# Altium footprint library PCB1.PcbLib: 38 footprints (part 1 of 3)
Each footprint in its own frame and in the unit in brackets; x right, y up, seen from the top. Pads: shape width x height; smd on the part's side, far side on the other; paste and mask are expansions set on the pad; w line width, h text height; cw(c..) or ccw(c..) is an arc to the next point about the centre after c.
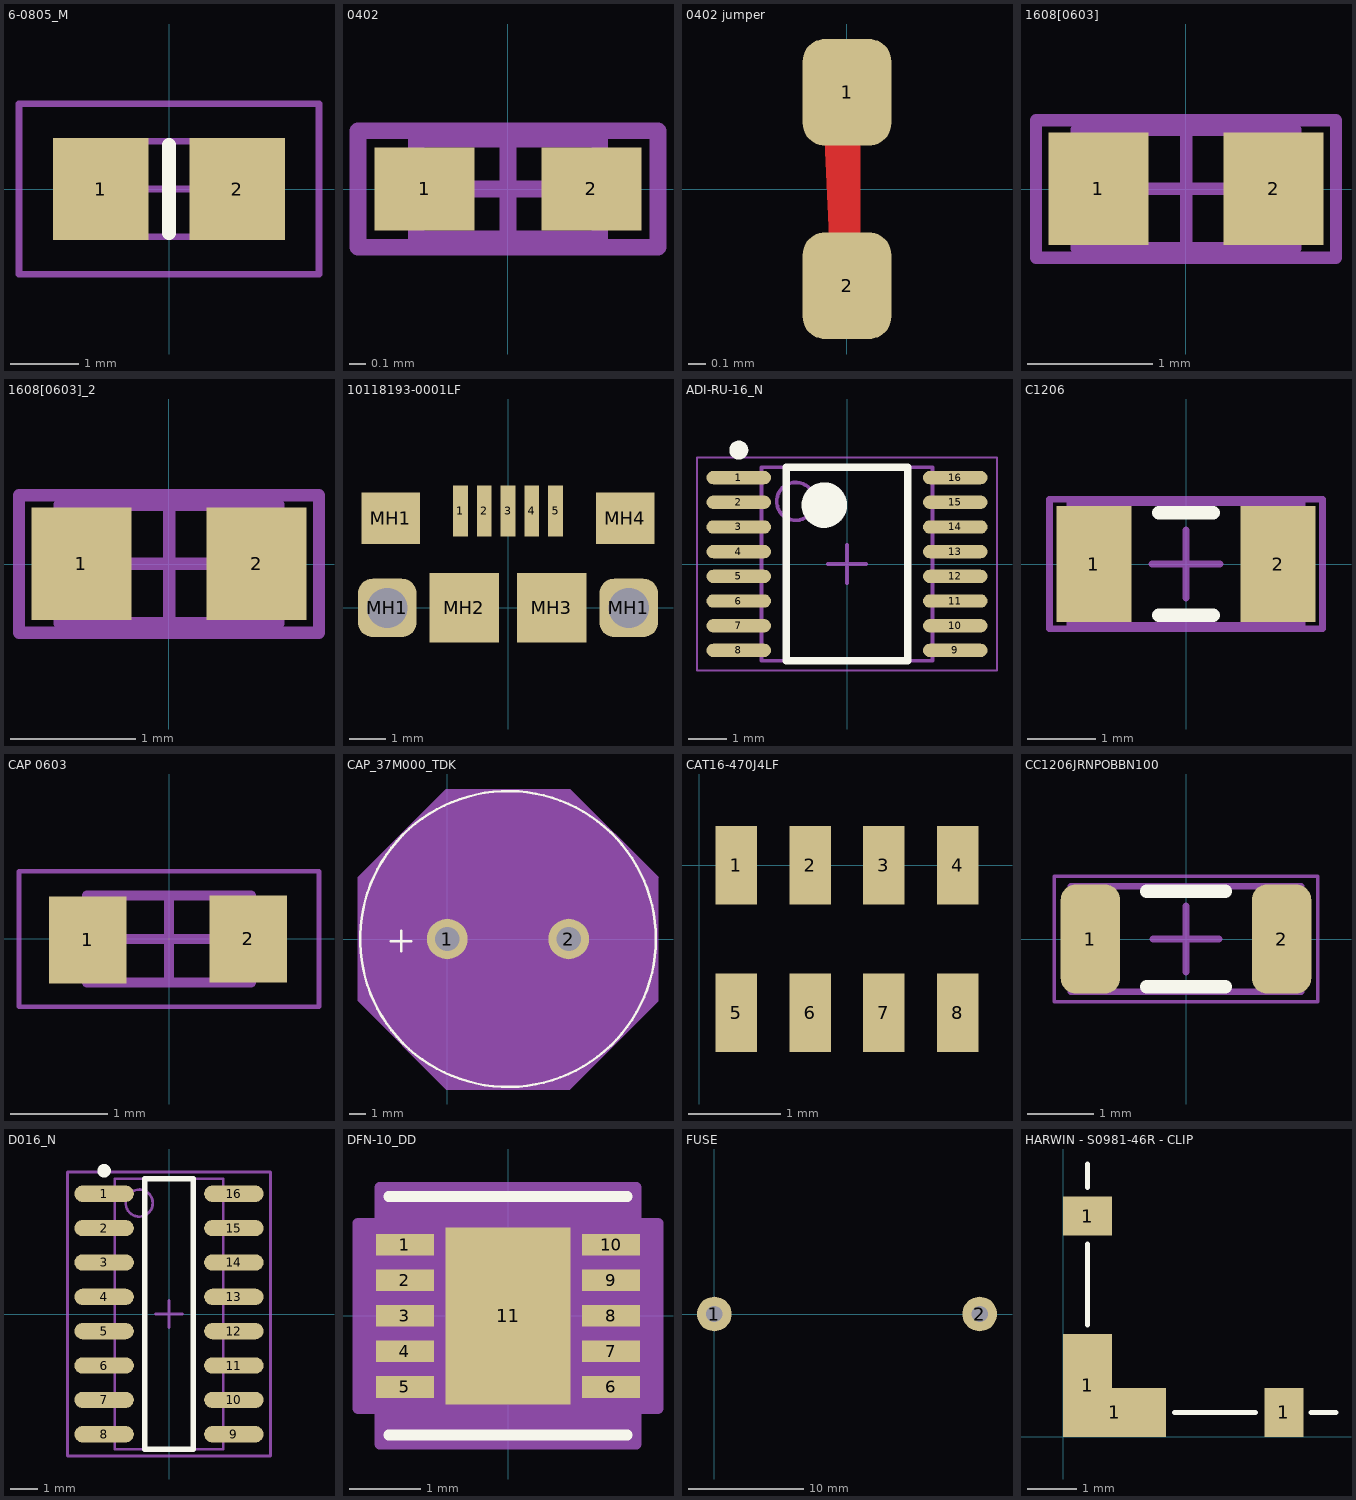
[diagram p0: the footprints below, top view; thin cyan lines are the x and y axes]

## 6-0805_M [mm]
pads (2):
  rect 1.4x1.5 smd: 1(-1,0) 2(1,0)
Top Overlay:
  lines w0.2: 0,-0.65 0,0.65
Mechanical 13:
  lines w0.1: -1.075,-0.7 -1.075,0.7 1.075,0.7 1.075,-0.7 -1.075,-0.7
Mechanical 15:
  lines w0.1: -0.5,0 0.5,0 ; 0,-0.5 0,0.5 ; -2.2,-1.25 -2.2,1.25 2.2,1.25 2.2,-1.25 -2.2,-1.25
3D body: height 0.7, standoff 0, extent -1.075,-0.7 1.075,0.7

## 0402 [mm]
pads (2):
  rect 0.6x0.5 smd: 1(-0.5,0) 2(0.5,0)
Mechanical 13:
  lines w0.1: -0.55,-0.3 0.55,-0.3 0.55,0.3 -0.55,0.3 -0.55,-0.3
Mechanical 15:
  lines w0.1: -0.3,0 0.3,0 ; 0,-0.3 0,0.3 ; -0.9,-0.35 0.9,-0.35 0.9,0.35 -0.9,0.35 -0.9,-0.35
3D body: height 1.3, standoff 0, extent -0.55,-0.3 0.55,0.3

## 0402 jumper [mm]
pads (2):
  rrect50% 0.5x0.6 smd: 1(0,0.545) 2(0,-0.545)
Top Layer:
  region: -0.125,0.275 0.075,0.275 0.075,-0.275 -0.1,-0.275
Top Solder:
  lines w0.5: 0,-0.575 0,0.575 ; 0,0.575 -0.025,0.575 0,0.575

## 1608[0603] [mm]
pads (2):
  rect 0.8x0.9 smd: 1(-0.7,0) 2(0.7,0)
Mechanical 13:
  lines w0.1: -0.875,-0.475 0.875,-0.475 0.875,0.475 -0.875,0.475 -0.875,-0.475
Mechanical 15:
  lines w0.1: -0.475,0 0.475,0 ; 0,-0.475 0,0.475 ; -1.2,-0.55 1.2,-0.55 1.2,0.55 -1.2,0.55 -1.2,-0.55
3D body: height 1.3, standoff 0, extent -0.875,-0.475 0.875,0.475

## 1608[0603]_2 [mm]
pads (2):
  rect 0.8x0.9 smd: 1(-0.7,0) 2(0.7,0)
Mechanical 13:
  lines w0.1: -0.875,-0.475 0.875,-0.475 0.875,0.475 -0.875,0.475 -0.875,-0.475
Mechanical 15:
  lines w0.1: -0.475,0 0.475,0 ; 0,-0.475 0,0.475 ; -1.2,-0.55 1.2,-0.55 1.2,0.55 -1.2,0.55 -1.2,-0.55
3D body: height 1.3, standoff 0, extent -0.875,-0.475 0.875,0.475

## 10118193-0001LF [mm]
pads (11):
  rect 0.4x1.4 smd: 1(-1.3,2.65) 2(-0.65,2.65) 3(0,2.65) 4(0.65,2.65) 5(1.3,2.65)
  rrect50% 1.6x1.6 hole 1.1: MH1(-3.3,0) MH1(3.3,0)
  rect 1.6x1.4 smd: MH1(-3.2,2.45) MH4(3.2,2.45)
  rect 1.9x1.9 smd: MH2(-1.2,0) MH3(1.2,0)
3D body "10118193-0001lfc.stp": height 2.88, standoff -0.72, extent -3.928,-2.74 3.928,2.92

## ADI-RU-16_N [mm]
pads (16):
  oval 1.7x0.35 smd: 1(-2.85,2.275) 2(-2.85,1.625) 3(-2.85,0.975) 4(-2.85,0.325) 5(-2.85,-0.325) 6(-2.85,-0.975) 7(-2.85,-1.625) 8(-2.85,-2.275) 9(2.85,-2.275) 10(2.85,-1.625) 11(2.85,-0.975) 12(2.85,-0.325) 13(2.85,0.325) 14(2.85,0.975) 15(2.85,1.625) 16(2.85,2.275)
Top Overlay:
  circle w0.6: c-0.6,1.55 r0.3
  circle w0.25: c-2.85,3 r0.125
  lines w0.2: -1.6,-2.55 1.6,-2.55 1.6,2.55 -1.6,2.55 -1.6,-2.55
Mechanical 13:
  circle w0.1: c-1.35,1.65 r0.5
  lines w0.1: -2.25,-2.55 2.25,-2.55 2.25,2.55 -2.25,2.55 -2.25,-2.55
Mechanical 15:
  lines w0.05: -3.95,-2.8 3.95,-2.8 3.95,2.8 -3.95,2.8 -3.95,-2.8
  lines w0.1: -0.5,0 0.5,0 ; 0,-0.5 0,0.5
3D body: height 1.2, standoff 0.05, extent -2.25,-2.55 2.25,2.55

## C1206 [mm]
pads (2):
  rect 1.1x1.7 smd: 1(-1.35,0) 2(1.35,0)
Top Overlay:
  lines w0.2: -0.4,-0.75 0.4,-0.75 ; -0.4,0.75 0.4,0.75
Mechanical 13:
  lines w0.1: -1.7,-0.9 -1.7,0.9 1.7,0.9 1.7,-0.9 -1.7,-0.9
Mechanical 15:
  lines w0.1: -0.5,0 0.5,0 ; 0,-0.5 0,0.5 ; -2,-0.95 -2,0.95 2,0.95 2,-0.95 -2,-0.95
3D body: height 1.3, standoff 0, extent -1.7,-0.9 1.7,0.9

## CAP 0603 [mm]
pads (2):
  rect 0.8x0.9 smd: 1(-0.84,-0.01) 2(0.82,0)
Mechanical 13:
  lines w0.1: -0.85,-0.45 0.85,-0.45 0.85,0.45 -0.85,0.45 -0.85,-0.45
Mechanical 15:
  lines w0.05: -1.55,-0.7 1.55,-0.7 1.55,0.7 -1.55,0.7 -1.55,-0.7
  lines w0.1: -0.45,0 0.45,0 ; 0,-0.45 0,0.45
3D body: height 0.8, standoff 0, extent 0.45,-0.45 0.85,0.45
3D body: height 0.8, standoff 0, extent -0.85,-0.45 -0.45,0.45
3D body: height 0.8, standoff 0, extent -0.45,-0.45 0.45,0.45

## CAP_37M000_TDK [mm]
pads (2):
  round 2.5 hole 1.5 mask+0: 1(0,0) 2(7.5,0)
Top Overlay:
  circle w0.152: c3.75,0 r9.131
  lines w0.152: -3.476,-0.127 -2.206,-0.127 ; -2.841,-0.762 -2.841,0.508
Mechanical 13:
  circle w0: c3.75,0 r9.004
  lines w0.025: -3.476,-0.127 -2.206,-0.127 ; -2.841,-0.762 -2.841,0.508
Mechanical 15:
  region: -5.508,3.812 -0.062,9.258 7.562,9.258 13.008,3.812 13.008,-3.812 7.562,-9.258 -0.062,-9.258 -5.508,-3.812
  lines w0.025: -5.508,-3.812 -5.508,3.812 -0.062,9.258 7.562,9.258 13.008,3.812 13.008,-3.812 7.562,-9.258 -0.062,-9.258 -5.508,-3.812
3D body "CAP_37M000_TDK.step": height 25.01, standoff -4.29, extent -5.254,-9.001 12.77,9
3D body: height 0.25, standoff 0, extent 0,0 0.254,0.254

## CAT16-470J4LF [mm]
pads (8):
  rect 0.45x0.85 smd: 1(0.4,0) 2(1.2,0) 3(2,0) 4(2.8,0) 5(0.4,-1.6) 6(1.2,-1.6) 7(2,-1.6) 8(2.8,-1.6)
3D body: height 0.5, standoff 0, extent 0,-1.6 3.2,0

## CC1206JRNPOBBN100 [mm]
pads (2):
  rrect50% 0.9x1.65 smd: 1(-1.45,0) 2(1.45,0)
Top Overlay:
  lines w0.2: -0.6,-0.725 0.6,-0.725 ; -0.6,0.725 0.6,0.725
Mechanical 13:
  lines w0.1: -1.75,-0.8 1.75,-0.8 1.75,0.8 -1.75,0.8 -1.75,-0.8
Mechanical 15:
  lines w0.05: -2,-0.95 2,-0.95 2,0.95 -2,0.95 -2,-0.95
  lines w0.1: -0.5,0 0.5,0 ; 0,-0.5 0,0.5
3D body "Chip2PinSM127P600-8N.step": height 0.7, standoff 0, extent -1.75,-0.8 1.75,0.8

## D016_N [mm]
pads (16):
  oval 2.2x0.6 smd: 1(-2.4,4.445) 2(-2.4,3.175) 3(-2.4,1.905) 4(-2.4,0.635) 5(-2.4,-0.635) 6(-2.4,-1.905) 7(-2.4,-3.175) 8(-2.4,-4.445) 9(2.4,-4.445) 10(2.4,-3.175) 11(2.4,-1.905) 12(2.4,-0.635) 13(2.4,0.635) 14(2.4,1.905) 15(2.4,3.175) 16(2.4,4.445)
Top Overlay:
  circle w0.25: c-2.4,5.295 r0.125
  lines w0.2: -0.9,-5 0.9,-5 0.9,5 -0.9,5 -0.9,-5
Mechanical 13:
  circle w0.1: c-1.1,4.1 r0.5
  lines w0.1: -2,-5 2,-5 2,5 -2,5 -2,-5
Mechanical 15:
  lines w0.1: -0.5,0 0.5,0 ; 0,-0.5 0,0.5 ; -3.75,-5.25 3.75,-5.25 3.75,5.25 -3.75,5.25 -3.75,-5.25
3D body: height 1.75, standoff 0, extent -2,-5 2,5

## DFN-10_DD [mil]
pads (11):
  rect 32x12 smd: 1(-57,39.37) 2(-57,19.68) 3(-57,0) 4(-57,-19.68) 5(-57,-39.37) 6(57,-39.37) 7(57,-19.68) 8(57,0) 9(57,19.68) 10(57,39.37)
  rect 69x98 smd paste-48.5: 11(0,0)
Top Overlay:
  lines w6: -66,-66 66,-66 ; -66,66 66,66
Top Paste:
  region: 34.5,49 -34.5,49 -34.5,-49 34.5,-49
Mechanical 13:
  lines w0: -12,61 ccw(c0,61) 12,61
Mechanical 15:
  region: -71,-51.21 -83,-51.21 -83,51.21 -71,51.21 -71,71 71,71 71,51.21 83,51.21 83,-51.21 71,-51.21 71,-71 -71,-71
  lines w6: -83,-51.21 -83,51.21 -71,51.21 -71,71 71,71 71,51.21 83,51.21 83,-51.21 71,-51.21 71,-71 -71,-71 -71,-51.21 -83,-51.21
3D body: height 10, standoff 0, extent 0,0 10,10
3D body "DFN-10_DD.step": height 32.09, standoff 0, extent -62.99,-60.98 62.99,60.98

## FUSE [mm]
pads (2):
  round 3 hole 1.4: 1(0,0) 2(23,0)
3D body: height 16, standoff 0, extent -1.95,-5.325 25.05,5.175

## HARWIN - S0981-46R - CLIP [mm]
pads (4):
  rect 1x0.8 smd: 1(0.5,4.5)
  rect 1x2.1 smd: 1(0.5,1.05)
  rect 2.1x1 smd: 1(1.05,0.5)
  rect 0.8x1 smd: 1(4.5,0.5)
Top Overlay:
  lines w0.1: 0.5,2.28 0.5,3.93 ; 0.5,5.08 0.5,5.56 ; 2.27,0.5 3.92,0.5 ; 5.05,0.5 5.56,0.5
3D body "s0981-46.stp": height 1.35, standoff 0, extent 0.05,0.07 4.805,4.825